# EAGLE library part TSC2007 (library VocalVision)
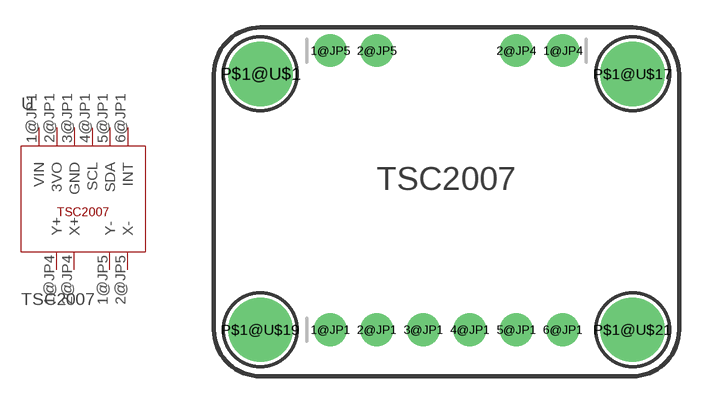
[diagram p4: symbol with the pads of TSC2007; footprint TSC2007]

Designator prefix -

## TSC2007  [TSC2007]
1@JP1  VIN
1@JP4  Y+
1@JP5  Y-
2@JP1  3VO
2@JP4  X+
2@JP5  X-
3@JP1  GND
4@JP1  SCL
5@JP1  SDA
6@JP1  INT

## Footprint TSC2007 (pad centres in mm)
Package generated by make-group2pac.ulp from: C:/Users/parni/Downloads/PCB/VocalVision/Adafruit TSC2007.brd at: 12/11/2023 3:57 PM
drill 1 pad 1.778: 1@JP1 6.35,2.54; 1@JP4 19.05,17.78; 1@JP5 6.35,17.78; 2@JP1 8.89,2.54; 2@JP4 16.51,17.78; 2@JP5 8.89,17.78; 3@JP1 11.43,2.54; 4@JP1 13.97,2.54; 5@JP1 16.51,2.54; 6@JP1 19.05,2.54
drill 2.5 pad 3.2: P$1@U$1 2.54,16.51; P$1@U$17 22.86,16.51; P$1@U$19 2.54,2.54; P$1@U$21 22.86,2.54